# Altium footprint library JSCT-6.PcbLib: 1 footprints
Each footprint in its own frame and in the unit in brackets; x right, y up, seen from the top. Pads: shape width x height; smd on the part's side, far side on the other; paste and mask are expansions set on the pad; w line width, h text height; cw(c..) or ccw(c..) is an arc to the next point about the centre after c.
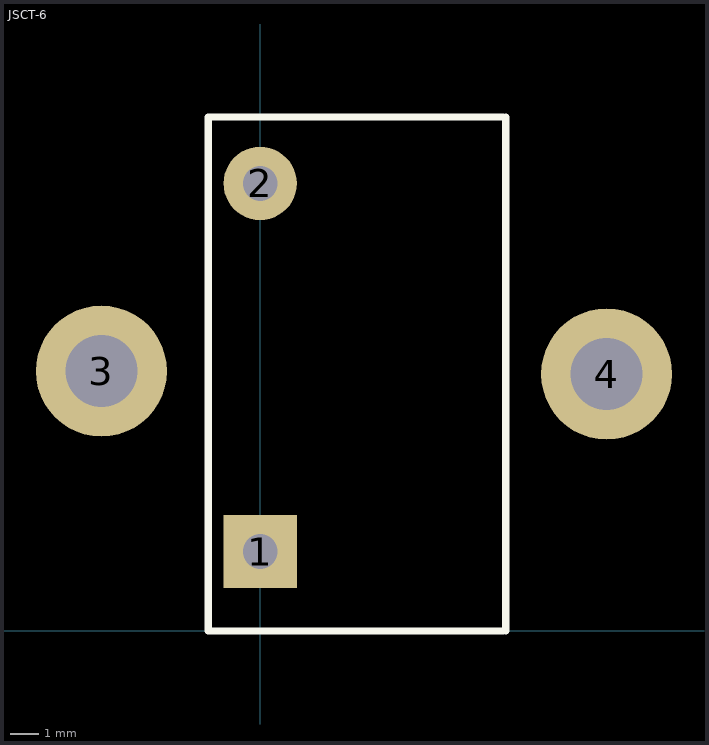
[diagram p0: the footprint, top view; thin cyan lines are the x and y axes]

## JSCT-6 [mm]
pads (4):
  rect 2.54x2.54 hole 1.2: 1(0,2.75)
  round 2.54 hole 1.2: 2(0,15.5)
  round 4.54 hole 2.5: 3(-5.5,9) 4(12,8.9)
Top Overlay:
  lines w0.254: 8.4,0 -1.8,0 -1.8,17.8 8.4,17.8 ; 8.5,0 8.5,17.8